# Altium footprint library SFW4S-2STE1LF.PcbLib: 1 footprints
Each footprint in its own frame and in the unit in brackets; x right, y up, seen from the top. Pads: shape width x height; smd on the part's side, far side on the other; paste and mask are expansions set on the pad; w line width, h text height; cw(c..) or ccw(c..) is an arc to the next point about the centre after c.
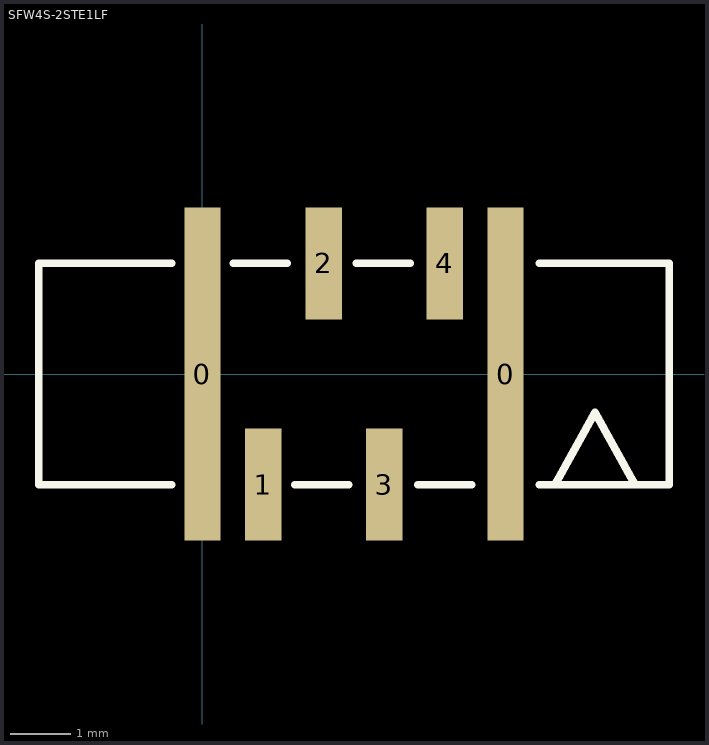
[diagram p0: the footprint, top view; thin cyan lines are the x and y axes]

## SFW4S-2STE1LF [mm] "4 pos FPC/FFC vertical SMD header"
height 6.8
pads (6):
  rect 0.6x5.5 smd: 0(0,0) 0(5,0)
  rect 0.6x1.85 smd: 1(1,-1.825) 2(2,1.825) 3(3,-1.825) 4(4,1.825)
Top Overlay:
  lines w0.127: -0.508,-1.825 -2.7,-1.825 -2.7,1.825 -0.508,1.825 ; 0.508,1.825 1.397,1.825 ; 1.524,-1.825 2.413,-1.825 ; 2.54,1.825 3.429,1.825 ; 3.556,-1.825 4.445,-1.825 ; 5.555,-1.825 7.7,-1.825 7.7,1.825 5.555,1.825 ; 5.842,-1.778 6.477,-0.635 7.112,-1.778